# EAGLE library part CS4202 (library cirrus)
AC-97 Audio Codec with Headphone Amplifier
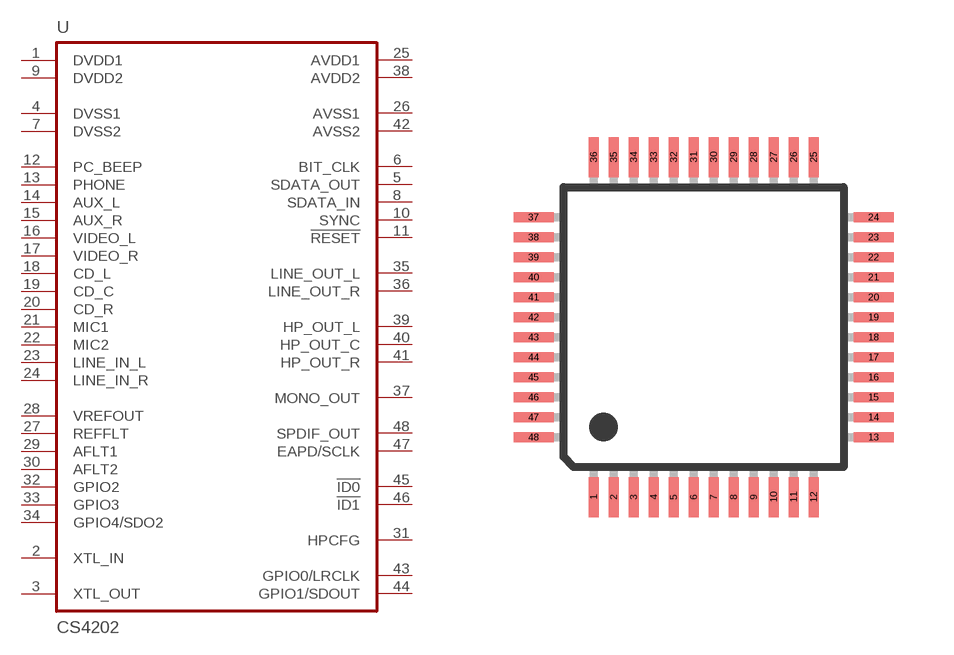
[diagram p9: symbol with the pads of LQFP48L; footprint LQFP48L]

Designator prefix U

## CS4202  [LQFP48L]
1  DVDD1  pwr
2  XTL_IN
3  XTL_OUT
4  DVSS1  pwr
5  SDATA_OUT
6  BIT_CLK
7  DVSS2  pwr
8  SDATA_IN
9  DVDD2  pwr
10  SYNC
11  !RESET!
12  PC_BEEP  pas
13  PHONE  pas
14  AUX_L  pas
15  AUX_R  pas
16  VIDEO_L  pas
17  VIDEO_R  pas
18  CD_L  pas
19  CD_C  pas
20  CD_R  pas
21  MIC1  pas
22  MIC2  pas
23  LINE_IN_L  pas
24  LINE_IN_R  pas
25  AVDD1  pwr
26  AVSS1  pwr
27  REFFLT
28  VREFOUT
29  AFLT1
30  AFLT2
31  HPCFG
32  GPIO2
33  GPIO3
34  GPIO4/SDO2
35  LINE_OUT_L  pas
36  LINE_OUT_R  pas
37  MONO_OUT  pas
38  AVDD2  pwr
39  HP_OUT_L  pas
40  HP_OUT_C  pas
41  HP_OUT_R  pas
42  AVSS2  pwr
43  GPIO0/LRCLK
44  GPIO1/SDOUT
45  !ID0!
46  !ID1!
47  EAPD/SCLK
48  SPDIF_OUT

## Footprint LQFP48L (pad centres in mm)
LQFP-48L body 7 x 7 mm
smd 0.25 x 1: 1 -2.75,-4.25; 2 -2.25,-4.25; 3 -1.75,-4.25; 4 -1.25,-4.25; 5 -0.75,-4.25; 6 -0.25,-4.25; 7 0.25,-4.25; 8 0.75,-4.25; 9 1.25,-4.25; 10 1.75,-4.25; 11 2.25,-4.25; 12 2.75,-4.25; 25 2.75,4.25; 26 2.25,4.25; 27 1.75,4.25; 28 1.25,4.25; 29 0.75,4.25; 30 0.25,4.25; 31 -0.25,4.25; 32 -0.75,4.25; 33 -1.25,4.25; 34 -1.75,4.25; 35 -2.25,4.25; 36 -2.75,4.25
smd 1 x 0.25: 13 4.25,-2.75; 14 4.25,-2.25; 15 4.25,-1.75; 16 4.25,-1.25; 17 4.25,-0.75; 18 4.25,-0.25; 19 4.25,0.25; 20 4.25,0.75; 21 4.25,1.25; 22 4.25,1.75; 23 4.25,2.25; 24 4.25,2.75; 37 -4.25,2.75; 38 -4.25,2.25; 39 -4.25,1.75; 40 -4.25,1.25; 41 -4.25,0.75; 42 -4.25,0.25; 43 -4.25,-0.25; 44 -4.25,-0.75; 45 -4.25,-1.25; 46 -4.25,-1.75; 47 -4.25,-2.25; 48 -4.25,-2.75